# Altium footprint library PCB Chip Resistor.PcbLib: 30 footprints (part 1 of 2)
Each footprint in its own frame and in the unit in brackets; x right, y up, seen from the top. Pads: shape width x height; smd on the part's side, far side on the other; paste and mask are expansions set on the pad; w line width, h text height; cw(c..) or ccw(c..) is an arc to the next point about the centre after c.
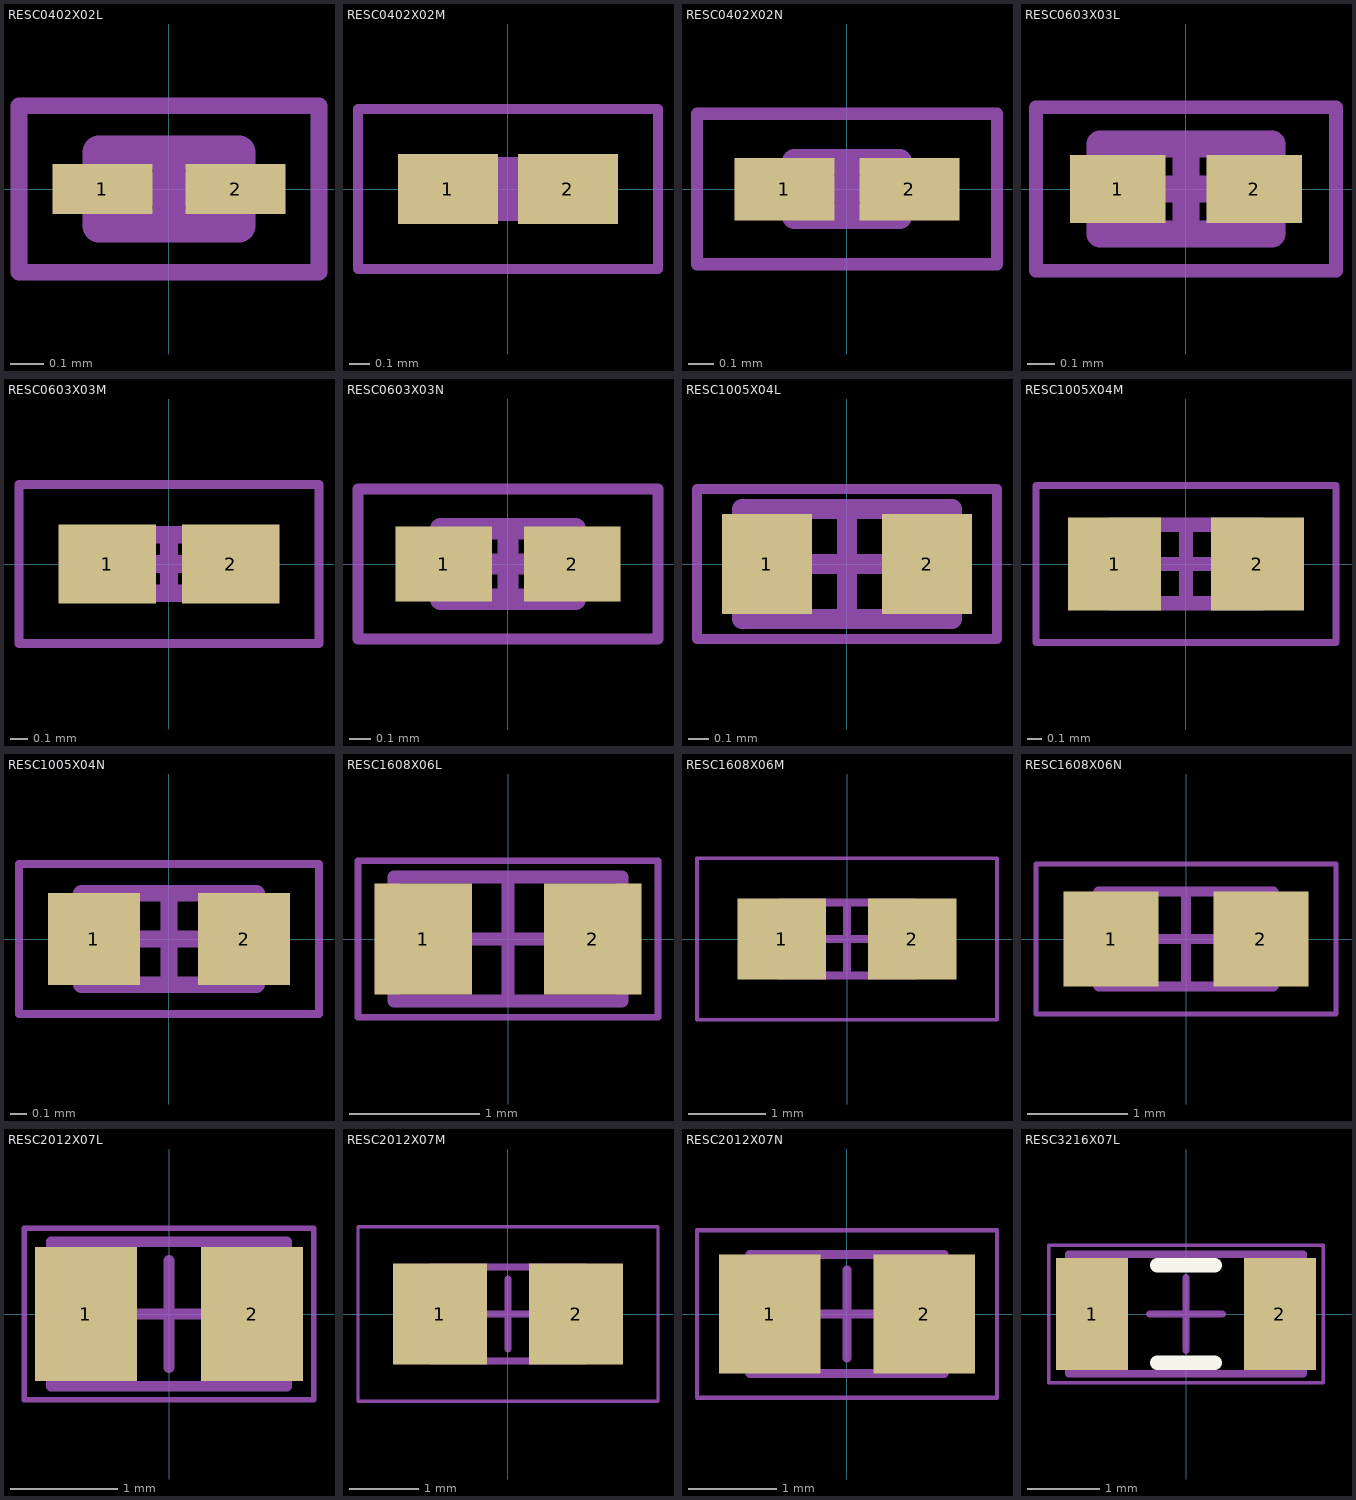
[diagram p0: the footprints below, top view; thin cyan lines are the x and y axes]

## RESC0402X02L [mm] "Chip Resistor, Body 0.4x0.2mm, IPC High Density (01005 Imperial)"
height 0.15
pads (2):
  rect 0.3x0.15 smd: 1(-0.2,0) 2(0.2,0)
Mechanical 13:
  lines w0.1: -0.21,-0.11 0.21,-0.11 0.21,0.11 -0.21,0.11 -0.21,-0.11
Mechanical 15:
  lines w0.05: -0.45,-0.25 0.45,-0.25 0.45,0.25 -0.45,0.25 -0.45,-0.25
  lines w0.1: -0.11,0 0.11,0 ; 0,-0.11 0,0.11
3D body "RESC0402X01L.step": height 0.15, standoff 0, extent -0.21,-0.11 0.21,0.11

## RESC0402X02M [mm] "Chip Resistor, Body 0.4x0.2mm, IPC Low Density (01005 Imperial)"
height 0.15
pads (2):
  rect 0.5x0.35 smd: 1(-0.3,0) 2(0.3,0)
Mechanical 13:
  lines w0.1: -0.21,-0.11 -0.21,0.11 0.21,0.11 0.21,-0.11 -0.21,-0.11
Mechanical 15:
  lines w0.05: -0.75,-0.4 -0.75,0.4 0.75,0.4 0.75,-0.4 -0.75,-0.4
  lines w0.1: -0.11,0 0.11,0 ; 0,-0.11 0,0.11
3D body "RESC0402X01M.step": height 0.15, standoff 0, extent -0.21,-0.11 0.21,0.11

## RESC0402X02N [mm] "Chip Resistor, Body 0.4x0.2mm, IPC Medium Density (01005 Imperial)"
height 0.15
pads (2):
  rect 0.4x0.25 smd: 1(-0.25,0) 2(0.25,0)
Mechanical 13:
  lines w0.1: -0.21,-0.11 -0.21,0.11 0.21,0.11 0.21,-0.11 -0.21,-0.11
Mechanical 15:
  lines w0.05: -0.6,-0.3 -0.6,0.3 0.6,0.3 0.6,-0.3 -0.6,-0.3
  lines w0.1: -0.11,0 0.11,0 ; 0,-0.11 0,0.11
3D body "RESC0402X01N.step": height 0.15, standoff 0, extent -0.21,-0.11 0.21,0.11

## RESC0603X03L [mm] "Chip Resistor, Body 0.6x0.3mm, IPC High Density (0201 Imperial)"
height 0.26
pads (2):
  rect 0.35x0.25 smd: 1(-0.25,0) 2(0.25,0)
Mechanical 13:
  lines w0.1: -0.315,-0.165 -0.315,0.165 0.315,0.165 0.315,-0.165 -0.315,-0.165
Mechanical 15:
  lines w0.05: -0.55,-0.3 -0.55,0.3 0.55,0.3 0.55,-0.3 -0.55,-0.3
  lines w0.1: -0.165,0 0.165,0 ; 0,-0.165 0,0.165
3D body "RESC0603X03L.step": height 0.26, standoff 0, extent -0.315,-0.165 0.315,0.165

## RESC0603X03M [mm] "Chip Resistor, Body 0.6x0.3mm, IPC Low Density (0201 Imperial)"
height 0.26
pads (2):
  rect 0.55x0.45 smd: 1(-0.35,0) 2(0.35,0)
Mechanical 13:
  lines w0.1: -0.315,-0.165 0.315,-0.165 0.315,0.165 -0.315,0.165 -0.315,-0.165
Mechanical 15:
  lines w0.05: -0.85,-0.45 0.85,-0.45 0.85,0.45 -0.85,0.45 -0.85,-0.45
  lines w0.1: -0.165,0 0.165,0 ; 0,-0.165 0,0.165
3D body "RESC0603X03M.step": height 0.26, standoff 0, extent -0.315,-0.165 0.315,0.165

## RESC0603X03N [mm] "Chip Resistor, Body 0.6x0.3mm, IPC Medium Density (0201 Imperial)"
height 0.26
pads (2):
  rect 0.45x0.35 smd: 1(-0.3,0) 2(0.3,0)
Mechanical 13:
  lines w0.1: -0.315,-0.165 -0.315,0.165 0.315,0.165 0.315,-0.165 -0.315,-0.165
Mechanical 15:
  lines w0.05: -0.7,-0.35 -0.7,0.35 0.7,0.35 0.7,-0.35 -0.7,-0.35
  lines w0.1: -0.165,0 0.165,0 ; 0,-0.165 0,0.165
3D body "RESC0603X03N.step": height 0.26, standoff 0, extent -0.315,-0.165 0.315,0.165

## RESC1005X04L [mm] "Chip Resistor, Body 1.0x0.5mm, IPC High Density (0402 Imperial)"
height 0.4
pads (2):
  rect 0.45x0.5 smd: 1(-0.4,0) 2(0.4,0)
Mechanical 13:
  lines w0.1: -0.525,-0.275 0.525,-0.275 0.525,0.275 -0.525,0.275 -0.525,-0.275
Mechanical 15:
  lines w0.05: -0.75,-0.375 0.75,-0.375 0.75,0.375 -0.75,0.375 -0.75,-0.375
  lines w0.1: -0.275,0 0.275,0 ; 0,-0.275 0,0.275
3D body "RESC1005X04L.step": height 0.4, standoff 0, extent -0.525,-0.275 0.525,0.275

## RESC1005X04M [mm] "Chip Resistor, Body 1.0x0.5mm, IPC Low Density (0402 Imperial)"
height 0.4
pads (2):
  rect 0.65x0.65 smd: 1(-0.5,0) 2(0.5,0)
Mechanical 13:
  lines w0.1: -0.525,-0.275 -0.525,0.275 0.525,0.275 0.525,-0.275 -0.525,-0.275
Mechanical 15:
  lines w0.05: -1.05,-0.55 -1.05,0.55 1.05,0.55 1.05,-0.55 -1.05,-0.55
  lines w0.1: -0.275,0 0.275,0 ; 0,-0.275 0,0.275
3D body "RESC1005X04M.step": height 0.4, standoff 0, extent -0.525,-0.275 0.525,0.275

## RESC1005X04N [mm] "Chip Resistor, Body 1.0x0.5mm, IPC Medium Density (0402 Imperial)"
height 0.4
pads (2):
  rect 0.55x0.55 smd: 1(-0.45,0) 2(0.45,0)
Mechanical 13:
  lines w0.1: -0.525,-0.275 -0.525,0.275 0.525,0.275 0.525,-0.275 -0.525,-0.275
Mechanical 15:
  lines w0.05: -0.9,-0.45 -0.9,0.45 0.9,0.45 0.9,-0.45 -0.9,-0.45
  lines w0.1: -0.275,0 0.275,0 ; 0,-0.275 0,0.275
3D body "RESC1005X04N.step": height 0.4, standoff 0, extent -0.525,-0.275 0.525,0.275

## RESC1608X06L [mm] "Chip Resistor, Body 1.6x0.8mm, IPC High Density (0603 Imperial)"
height 0.55
pads (2):
  rect 0.75x0.85 smd: 1(-0.65,0) 2(0.65,0)
Mechanical 13:
  lines w0.1: -0.875,-0.475 -0.875,0.475 0.875,0.475 0.875,-0.475 -0.875,-0.475
Mechanical 15:
  lines w0.05: -1.15,-0.6 -1.15,0.6 1.15,0.6 1.15,-0.6 -1.15,-0.6
  lines w0.1: -0.475,0 0.475,0 ; 0,-0.475 0,0.475
3D body "RESC1608X06L.step": height 0.55, standoff 0, extent -0.875,-0.475 0.875,0.475

## RESC1608X06M [mm] "Chip Resistor, Body 1.6x0.8mm, IPC Low Density (0603 Imperial)"
height 0.55
pads (2):
  rect 1.15x1.05 smd: 1(-0.85,0) 2(0.85,0)
Mechanical 13:
  lines w0.1: -0.875,-0.475 0.875,-0.475 0.875,0.475 -0.875,0.475 -0.875,-0.475
Mechanical 15:
  lines w0.05: -1.95,-1.05 1.95,-1.05 1.95,1.05 -1.95,1.05 -1.95,-1.05
  lines w0.1: -0.475,0 0.475,0 ; 0,-0.475 0,0.475
3D body "RESC1608X06M.step": height 0.55, standoff 0, extent -0.875,-0.475 0.875,0.475

## RESC1608X06N [mm] "Chip Resistor, Body 1.6x0.8mm, IPC Medium Density (0603 Imperial)"
height 0.55
pads (2):
  rect 0.95x0.95 smd: 1(-0.75,0) 2(0.75,0)
Mechanical 13:
  lines w0.1: -0.875,-0.475 0.875,-0.475 0.875,0.475 -0.875,0.475 -0.875,-0.475
Mechanical 15:
  lines w0.05: -1.5,-0.75 1.5,-0.75 1.5,0.75 -1.5,0.75 -1.5,-0.75
  lines w0.1: -0.475,0 0.475,0 ; 0,-0.475 0,0.475
3D body "RESC1608X06N.step": height 0.55, standoff 0, extent -0.875,-0.475 0.875,0.475

## RESC2012X07L [mm] "Chip Resistor, Body 2.0x1.2mm, IPC High Density (0805 Imperial)"
height 0.7
pads (2):
  rect 0.95x1.25 smd: 1(-0.775,0) 2(0.775,0)
Mechanical 13:
  lines w0.1: -1.1,-0.675 1.1,-0.675 1.1,0.675 -1.1,0.675 -1.1,-0.675
Mechanical 15:
  lines w0.05: -1.35,-0.8 1.35,-0.8 1.35,0.8 -1.35,0.8 -1.35,-0.8
  lines w0.1: -0.5,0 0.5,0 ; 0,-0.5 0,0.5
3D body "RESC2012X07L.step": height 0.7, standoff 0, extent -1.1,-0.675 1.1,0.675

## RESC2012X07M [mm] "Chip Resistor, Body 2.0x1.2mm, IPC Low Density (0805 Imperial)"
height 0.7
pads (2):
  rect 1.35x1.45 smd: 1(-0.975,0) 2(0.975,0)
Mechanical 13:
  lines w0.1: -1.1,-0.675 1.1,-0.675 1.1,0.675 -1.1,0.675 -1.1,-0.675
Mechanical 15:
  lines w0.05: -2.15,-1.25 2.15,-1.25 2.15,1.25 -2.15,1.25 -2.15,-1.25
  lines w0.1: -0.5,0 0.5,0 ; 0,-0.5 0,0.5
3D body "RESC2012X07M.step": height 0.7, standoff 0, extent -1.1,-0.675 1.1,0.675

## RESC2012X07N [mm] "Chip Resistor, Body 2.0x1.2mm, IPC Medium Density (0805 Imperial)"
height 0.7
pads (2):
  rect 1.15x1.35 smd: 1(-0.875,0) 2(0.875,0)
Mechanical 13:
  lines w0.1: -1.1,-0.675 1.1,-0.675 1.1,0.675 -1.1,0.675 -1.1,-0.675
Mechanical 15:
  lines w0.05: -1.7,-0.95 1.7,-0.95 1.7,0.95 -1.7,0.95 -1.7,-0.95
  lines w0.1: -0.5,0 0.5,0 ; 0,-0.5 0,0.5
3D body "RESC2012X07N.step": height 0.7, standoff 0, extent -1.1,-0.675 1.1,0.675

## RESC3216X07L [mm] "Chip Resistor, Body 3.2x1.6mm, IPC High Density (1206 Imperial)"
height 0.7
pads (2):
  rect 1x1.55 smd: 1(-1.3,0) 2(1.3,0)
Top Overlay:
  lines w0.2: -0.4,-0.675 0.4,-0.675 ; -0.4,0.675 0.4,0.675
Mechanical 13:
  lines w0.1: -1.625,-0.825 1.625,-0.825 1.625,0.825 -1.625,0.825 -1.625,-0.825
Mechanical 15:
  lines w0.05: -1.9,-0.95 1.9,-0.95 1.9,0.95 -1.9,0.95 -1.9,-0.95
  lines w0.1: -0.5,0 0.5,0 ; 0,-0.5 0,0.5
3D body "RESC3115X07L.step": height 0.7, standoff 0, extent -1.625,-0.825 1.625,0.825